# Altium integrated library FMP Miscellaneous Device.IntLib: 42 symbols
Pins are listed as number, name and electrical type; pins without a type are passive.

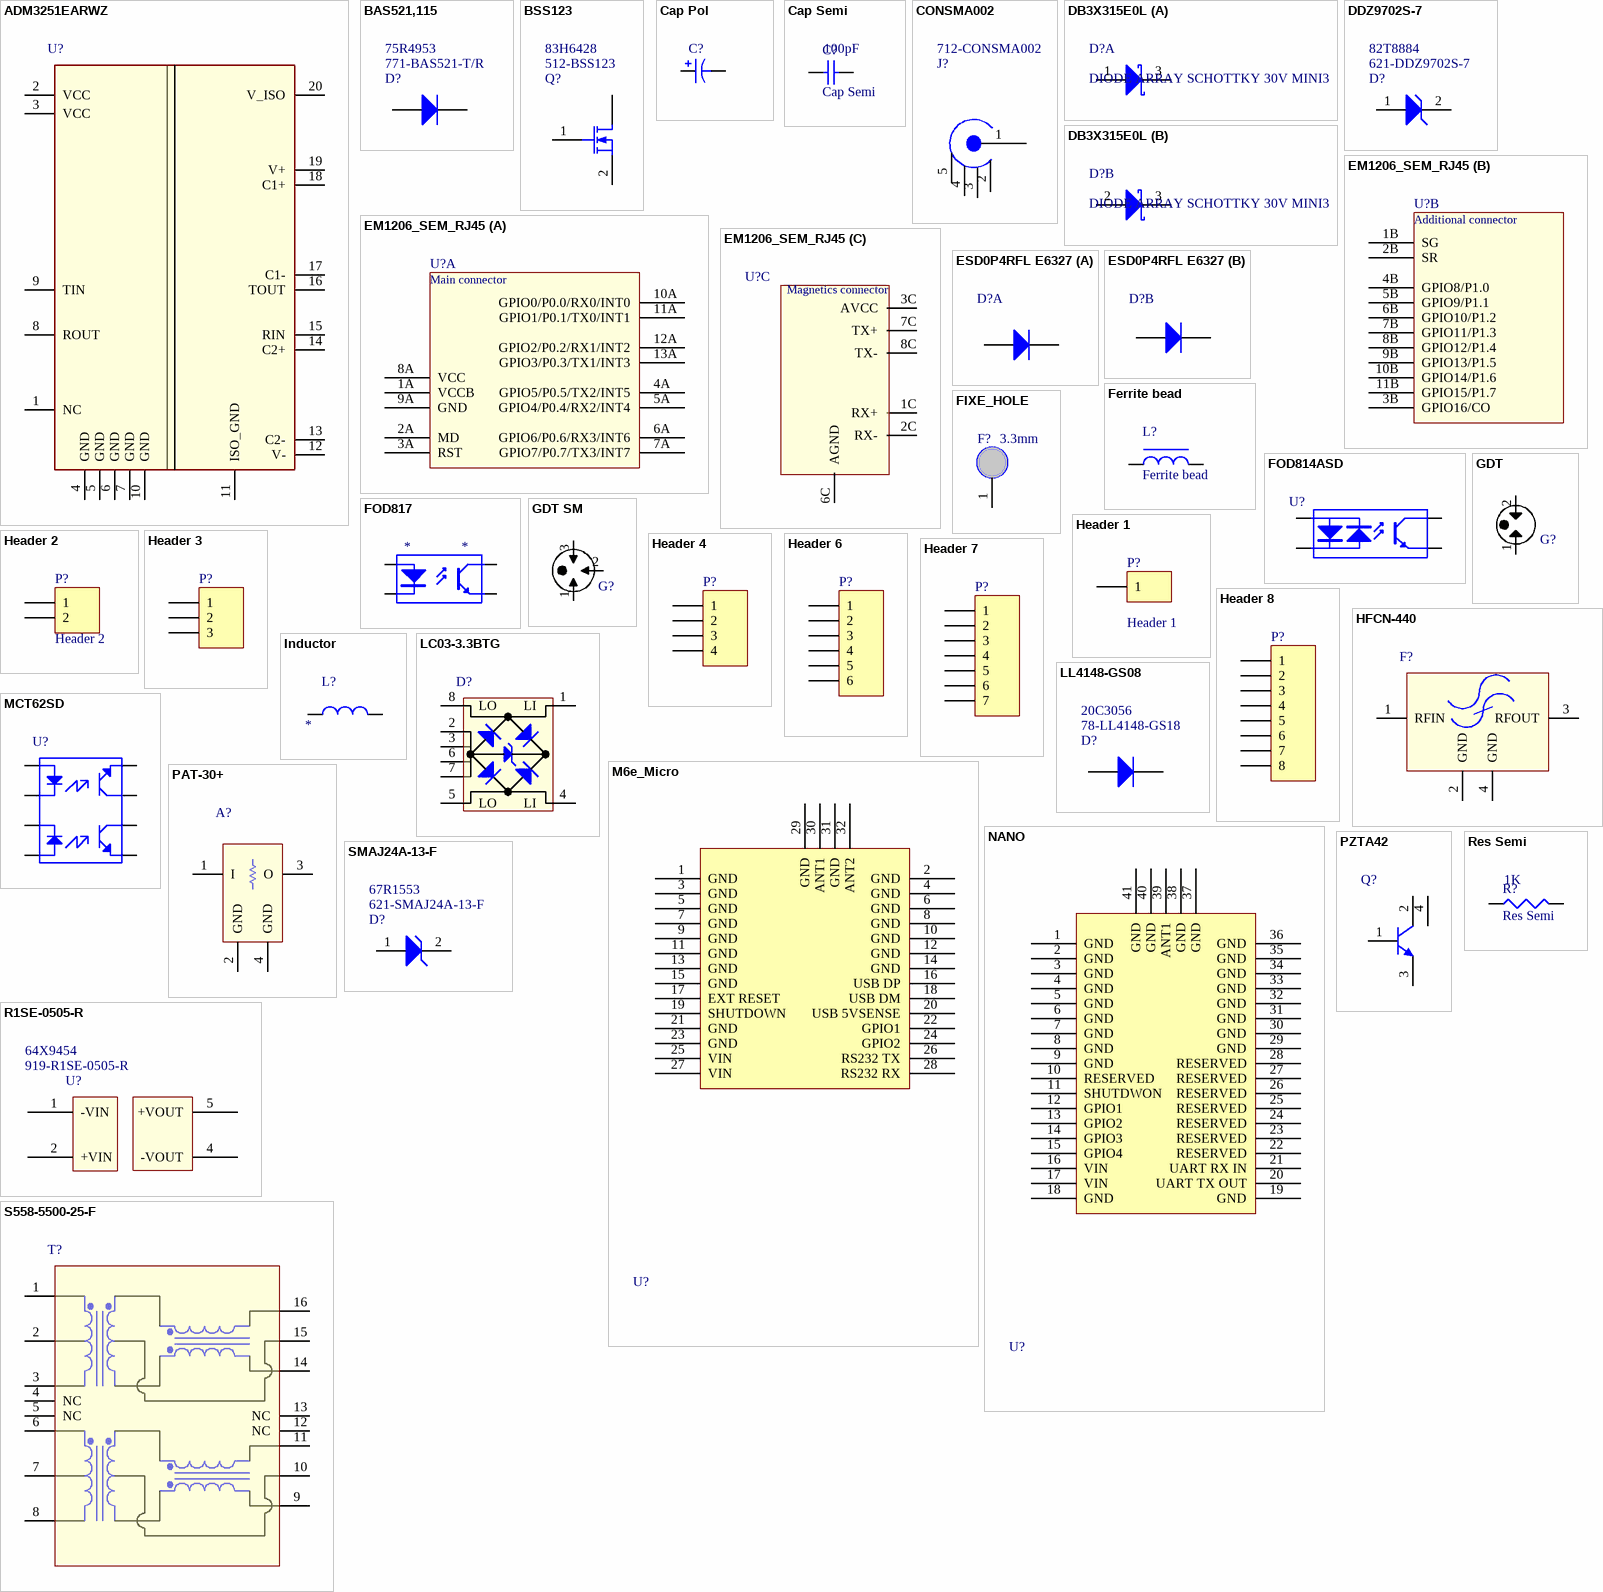
[diagram p0: symbols ADM3251EARWZ to SMAJ24A-13-F]

## ADM3251EARWZ
designator U?  (value not drawn)
DGTL ISO 2.5KV 2CH RS232 20SOIC; Manufacturer: Analog Devices Inc; Isolated Power: Yes; Number of Channels: 2; Inputs - Side 1/Side 2: 1/1; Channel Type: Unidirectional; Voltage - Isolation: 2500Vrms; Common Mode Transient Immunity (Min): 25kV/µs; Data Rate: 460Kbps; Rise / Fall Time (Typ): 2.3ns, 2.3ns; Voltage - Supply: 3.3V, 5V; Supplier 1: Digi-Key; ManufacturerPartNumber: ADM3251EARWZ; RoHS: RoHS Compliant; Category: Isolators; Stock 1: 1699; Pricing 1: 1=7.24, 10=6.519, 37=5.94, 111=5.36036, 259=4.92575, 518=4.49112, 1036=3.91162, 2516=3.76675, 5032=3.66 (USD); Packaging: Tube; Technology: Magnetic Coupling; Type: RS232; Propagation Delay tpLH / tpHL (Max): -; Pulse Width Distortion (Max): -; Operating Temperature: -40°C ~ 85°C; Package / Case: 20-SOIC (0.295", 7.50mm Width); Supplier Device Package: 20-SOIC; ComponentLink1URL: http://www.analog.com/static/imported-files/data_sheets/ADM3251E.pdf; ComponentLink1Description: http://www.analog.com/static/imported-files/data_sheets/ADM3251E.pdf; Supplier Part Number 1: ADM3251EARWZ-ND
footprint SOIC_20_W (SOIC 20 WIDE)
pins: 1 NC, 2 VCC, 3 VCC, 4 GND, 5 GND, 6 GND, 7 GND, 8 ROUT, 9 TIN, 10 GND, 11 ISO_GND, 12 V-, 13 C2-, 14 C2+, 15 RIN, 16 TOUT, 17 C1-, 18 C1+, 19 V+, 20 V_ISO

## BAS521,115
designator D?  Supplier Part Number 2: 771-BAS521-T/R  Supplier Part Number 3: 75R4953
DIODE GEN PURP 300V 250MA SOD523; Manufacturer: NXP Semiconductors; Manufacturer Part Number: BAS521,115; Diode Type: Standard; Current - Average Rectified (Io): 250mA (DC); Voltage - Forward (Vf) (Max) @ If: 1.1V @ 100mA; Speed: Fast Recovery =< 500ns, > 200mA (Io); Reverse Recovery Time (trr): 50ns; Current - Reverse Leakage @ Vr: 150nA @ 250V; Capacitance @ Vr, F: 5pF @ 0V, 1MHz; Configuration: Single; Forward Continuous Current: 0.25 A; Max Surge Current: 4.5 A; Recovery Time: 50 ns; Forward Voltage Drop: 1.1 V; Maximum Reverse Leakage Current: 0.15 uA; Forward Current If(AV): 100; Repetitive Reverse Voltage Vrrm Max: 300; Forward Voltage VF Max: 1.1; Reverse Recovery Time trr Max: 50; Forward Surge Current Ifsm Max: 4.5; No. of Pins: 2; Supplier 1: Digi-Key; RoHS: RoHS Compliant; Category: Discrete Semiconductor Products; Stock 1: 18985; Pricing 1: 1=0.32, 10=0.29, 25=0.2084, 100=0.1622, 250=0.10192, 500=0.08686, 1000=0.05918 (USD); Packaging: Cut Tape (CT); Voltage - DC Reverse (Vr) (Max): 300V; Mounting Type: Surface Mount; Package / Case: SC-79, SOD-523; Supplier Device Package: SOD-523; Operating Temperature - Junction: 150°C (Max); ComponentLink1URL: http://www.nxp.com/documents/data_sheet/BAS521.pdf; ComponentLink1Description: http://www.nxp.com/documents/data_sheet/BAS521.pdf; Supplier Part Number 1: 568-6009-1-ND; Supplier 2: Mouser; Stock 2: 63383; Pricing 2: 1=0.419, 10=0.281, 100=0.117, 1000=0.080, 3000=0.061, 9000=0.051, 24000=0.049, 45000=0.045, 99000=0.039 (AUD); Operating Temperature Range: + 150 C; Product: Switching Diodes; Brand: NXP Semiconductors; Mounting Style: SMD/SMT; Maximum Operating Temperature: + 150 C; Minimum Operating Temperature: - 65 C; Peak Reverse Voltage: 300 V; Product Category: Diodes & Rectifiers - Single; Standard Pack Qty: 3000; RoHS - Mouser: Y; Minimum Order Quantity: 1; Reeling: True; ComponentLink2URL: http://www.mouser.com/ds/2/302/BAS521-350192.pdf; ComponentLink2Description: http://www.mouser.com/ds/2/302/BAS521-350192.pdf; Supplier 3: Newark; Stock 3: 3582; Pricing 3: 1=0,339, 10=0,311, 25=0,224, 100=0,174, 250=0,109, 500=0,093, 1000=0,064, 2500=0,056 (USD); ComponentLink3URL: http://www.farnell.com/datasheets/955964.pdf; ComponentLink3Description: http://www.farnell.com/datasheets/955964.pdf; ComponentLink4URL: http://www.nxp.com/packings/SOD523_115.html; ComponentLink4Description: http://www.nxp.com/packings/SOD523_115.html; ComponentLink5URL: http://www.farnell.com/datasheets/1760746.pdf; ComponentLink5Description: http://www.farnell.com/datasheets/1760746.pdf
footprint SOD523 (SMT)
pins: 1 A, 2 K

## BSS123
designator Q?  Supplier Part Number 2: 512-BSS123  Supplier Part Number 3: 83H6428
MOSFET N-CH 100V 170MA SOT-23; Manufacturer: Fairchild Semiconductor; Manufacturer Part Number: BSS123; FET Type: MOSFET N-Channel, Metal Oxide; FET Feature: Logic Level Gate; Current - Continuous Drain (Id) @ 25°C: 170mA (Ta); Rds On (Max) @ Id, Vgs: 6 Ohm @ 170mA, 10V; Vgs(th) (Max) @ Id: 2V @ 1mA; Gate Charge (Qg) @ Vgs: 2.5nC @ 10V; Input Capacitance (Ciss) @ Vds: 73pF @ 25V; Power - Max: 360mW; Configuration: Single; Forward Transconductance - Min: 0.8 S; Transistor Polarity: N-Channel; Channel Mode: Enhancement; Fall Time: 9 ns; Pd - Power Dissipation: 360 mW; Rds On - Drain-Source Resistance: 6 Ohms; Typical Turn-Off Delay Time: 17 ns; Vgs - Gate-Source Breakdown Voltage: 20 V; Continuous Drain Current Id: 170; Drain Source Voltage Vds: 100; On Resistance Rds(on): 6; Rds(on) Test Voltage Vgs: 10; Threshold Voltage Vgs: 20; No. of Pins: 3; Supplier 1: Digi-Key; RoHS: RoHS Compliant; Category: Discrete Semiconductor Products; Stock 1: 265820; Pricing 1: 1=0.24, 10=0.216, 25=0.1556, 100=0.1211, 250=0.07612, 500=0.06484, 1000=0.04418 (USD); Packaging: Digi-Reel®; Drain to Source Voltage (Vdss): 100V; Mounting Type: Surface Mount; Package / Case: TO-236-3, SC-59, SOT-23-3; Supplier Device Package: SOT-23; ComponentLink1URL: http://www.fairchildsemi.com/datasheets/BS/BSS123.pdf; ComponentLink1Description: http://www.fairchildsemi.com/datasheets/BS/BSS123.pdf; Supplier Part Number 1: BSS123NDKR-ND; Supplier 2: Mouser; Stock 2: 94853; Pricing 2: 1=0.324, 10=0.211, 100=0.088, 1000=0.059, 3000=0.046, 9000=0.039, 24000=0.036, 45000=0.034, 99000=0.030 (AUD); Series: BSS123; Brand: Fairchild Semiconductor; Mounting Style: SMD/SMT; Id - Continuous Drain Current: 170 mA; Maximum Operating Temperature: + 150 C; Minimum Operating Temperature: - 55 C; Rise Time: 9 ns; Standard Pack Qty: 3000; Vds - Drain-Source Breakdown Voltage: 100 V; RoHS - Mouser: Y; Minimum Order Quantity: 1; Reeling: True; ComponentLink2URL: http://www.mouser.com/ds/2/149/BSS123-90724.pdf; ComponentLink2Description: http://www.mouser.com/ds/2/149/BSS123-90724.pdf; Supplier 3: Newark; Stock 3: 1017; Pricing 3: 1=0,292, 10=0,19, 100=0,079, 1000=0,054 (USD); ComponentLink3URL: http://www.onsemi.com/pub/Collateral/2SA1020-D.PDF; ComponentLink3Description: http://www.onsemi.com/pub/Collateral/2SA1020-D.PDF
footprint SOT-23_L (SOT23, 3-Leads, Body 2.9x1.3mm, Pitch 0.95mm, Lead Span 2.5mm, IPC High Density)
pins: 1 G, 2 S, 3 D

## Cap Pol
designator C?  (value not drawn)
Polarized Capacitor (Axial); Value: 100pF; Published: 8-Jun-2000; LatestRevisionDate: 17-Jul-2002; LatestRevisionNote: Re-released for DXP Platform.; PackageReference: POLAR0.8; Publisher: Altium Limited; PackageDescription: Polarized Capacitor; 2 Leads
simulation model CAP (Capacitor)
signal-integrity model Cap Pol
footprint CAPPR2.5-6.3X5 (Capacitor, Electrolytic, Radial; Body 6.3 x 5 mm (Dia.xH typ); Pin Spacing 2.5 mm (typ))
footprint CAPPR5-10X12.5 (Capacitor, Electrolytic, Radial; Body 10 x 12.5 mm (Dia.xH typ); Pin Spacing 5 mm (typ))
footprint Radial, Can 8MM- SMD (Radial, Can - SMD)
footprint Radial, Can 10mm - SMD (Radial, Can - SMD (D=10mm, H=10mm))
footprint Radial, Can 6.3MM- SMD (Radial, Can - SMD Diameter 6.3mm)
footprint CAPPR5-10X20 (Capacitor, Electrolytic, Radial; Body 10 x 5 mm (Dia.xH typ); Pin Spacing 5 mm (typ))
pins: 1, 2
1 alternate drawing of the same symbol

## Cap Semi
designator C?  value 100pF
Capacitor (Semiconductor SIM Model); Published: 8-Jun-2000; LatestRevisionDate: 29-May-2009; LatestRevisionNote: IPC-7351 Footprint Added.; PackageReference: C1206; Publisher: Altium Limited; PackageDescription: Chip Capacitor
simulation model CAP (Semiconductor Capacitor)
signal-integrity model Cap Semi
footprint Cap-0603(1608 Metric) (Chip Capacitor, Body 1.6x0.8mm, IPC High Density)
footprint CAP-1812(4532 METRIC) (Chip Capacitor, Body 4.5x3.2mm, IPC High Density)
pins: 1, 2

## CONSMA002
designator J?  Supplier Part Number 2: 712-CONSMA002
CONN SMA JACK R/A 50 OHM PCB; Manufacturer: Linx Technologies Inc; Manufacturer Part Number: CONSMA002; Connector Type: Jack, Female Socket; Contact Termination: Solder; Impedance: 50 Ohm; Body Material: Brass; Body Finish: Nickel; Center Contact Material: Beryllium Copper; Center Contact Plating: Gold; Dielectric Material: Polytetrafluoroethylene (PTFE); Brand: Linx Technologies; Supplier 1: Digi-Key; RoHS: RoHS Compliant; Category: Connectors, Interconnects; Stock 1: 4295; Pricing 1: 1=3.31, 25=3.03, 100=2.76, 500=2.7 (USD); Packaging: Bulk; Connector Style: SMA; Shield Termination: Solder; Mounting Type: Through Hole, Right Angle; Cable Group: -; Fastening Type: Threaded; Frequency - Max: -; Features: -; Housing Color: Silver; Ingress Protection: -; Voltage Rating: -; Operating Temperature: -65°C ~ 165°C; ComponentLink1URL: http://www.linxtechnologies.com/resources/diagrams/consma002.pdf; ComponentLink1Description: http://www.linxtechnologies.com/resources/diagrams/consma002.pdf; Supplier Part Number 1: CONSMA002-ND; Supplier 2: Mouser; Stock 2: 2893; Pricing 2: 1=4.47, 25=4.09, 100=3.73, 500=3.32, 2000=2.97 (AUD); Contact Plating: Gold; Gender: Jack; Orientation: Right Angle; Product: PCB Receptacles; Series: SMA; Termination Style: Solder; Contact Material: Beryllium Copper; RF Series: SMA; Product Category: SMA Connectors; Standard Pack Qty: 100; RoHS - Mouser: Y; Minimum Order Quantity: 1; Reeling: False; ComponentLink2URL: http://www.mouser.com/ds/2/238/consma002-471831.pdf; ComponentLink2Description: http://www.mouser.com/ds/2/238/consma002-471831.pdf
footprint SMA 90 (SMA PCB 90)
pins: 1 IN, 2 GND, 3 GND, 4 GND, 5 GND

## DB3X315E0L
designator D?, comment DIODE ARRAY SCHOTTKY 30V MINI3
Manufacturer: Panasonic Electronic Components; ManufacturerPartNumber: DB3X315E0L; Diode Configuration: 1 Pair Common Cathode; Current - Average Rectified (Io) (per Diode): 30mA (DC); Voltage - Forward (Vf) (Max) @ If: 1V @ 30mA; Speed: Small Signal =< 200mA (Io), Any Speed; Reverse Recovery Time (trr): 1ns; Current - Reverse Leakage @ Vr: 300nA @ 30V; Supplier 1: Digi-Key; RoHS: RoHS Compliant; Category: Discrete Semiconductor Products; Stock 1: 11816; Pricing 1: 1=0.35, 10=0.318, 25=0.2288, 100=0.1781, 250=0.11188, 500=0.09534, 1000=0.06496 (USD); Packaging: Cut Tape (CT); Diode Type: Schottky; Voltage - DC Reverse (Vr) (Max): 30V; Mounting Type: Surface Mount; Package / Case: TO-236-3, SC-59, SOT-23-3; Supplier Device Package: Mini3-G3-B; ComponentLink1URL: http://industrial.panasonic.com/www-cgi/jvcr13pz.cgi?E+SC+4+CDF7003+DB3X315E+8+WW; ComponentLink1Description: http://industrial.panasonic.com/www-cgi/jvcr13pz.cgi?E+SC+4+CDF7003+DB3X315E+8+WW; Supplier Part Number 1: DB3X315E0LCT-ND
footprint SOT-23_L (SOT23, 3-Leads, Body 2.9x1.3mm, Pitch 0.95mm, Lead Span 2.5mm, IPC High Density)
part A pins: 1 A, 3 K
part B pins: 2 A, 3 K

## DDZ9702S-7
designator D?  Supplier Part Number 2: 621-DDZ9702S-7  Supplier Part Number 3: 82T8884
DIODE ZENER 15V 200MW SOD323; Manufacturer: Diodes Incorporated; Manufacturer Part Number: DDZ9702S-7; Tolerance: ±5%; Current - Reverse Leakage @ Vr: 50nA @ 11.4V; Voltage - Forward (Vf) (Max) @ If: 900mV @ 10mA; Configuration: Single; Zener Current: 50 mA; Maximum Reverse Leakage Current: 50 nA; Voltage Tolerance: 5 %; Zener Voltage Vz Typ: 15; Power Dissipation Pd: 200; Diode Case Style: SOD-323; No. of Pins: 2; Supplier 1: Digi-Key; RoHS: RoHS Compliant; Category: Discrete Semiconductor Products; Stock 1: 4357; Pricing 1: 1=0.52, 10=0.371, 25=0.2884, 100=0.2184, 250=0.1544, 500=0.1236, 1000=0.0948 (USD); Packaging: Cut Tape (CT); Voltage - Zener (Nom) (Vz): 15V; Power - Max: 200mW; Impedance (Max) (Zzt): -; Operating Temperature: -65°C ~ 150°C; Mounting Type: Surface Mount; Package / Case: SC-76, SOD-323; Supplier Device Package: SOD-323; ComponentLink1URL: http://www.diodes.com/datasheets/ds30409.pdf; ComponentLink1Description: http://www.diodes.com/datasheets/ds30409.pdf; Supplier Part Number 1: DDZ9702SDICT-ND; Supplier 2: Mouser; Stock 2: 6155; Pricing 2: 1=0.689, 10=0.389, 100=0.166, 1000=0.128, 3000=0.097, 9000=0.086, 24000=0.081, 45000=0.072, 99000=0.068 (AUD); Series: DDZ9702; Brand: Diodes Incorporated; Mounting Style: SMD/SMT; Maximum Operating Temperature: + 150 C; Minimum Operating Temperature: - 65 C; Pd - Power Dissipation: 200 mW; Product Category: Diode - Zener Single; Standard Pack Qty: 3000; Vz - Zener Voltage: 15 V; RoHS - Mouser: Y; Minimum Order Quantity: 1; Reeling: True; ComponentLink2URL: http://www.mouser.com/ds/2/115/ds30409-79621.pdf; ComponentLink2Description: http://www.mouser.com/ds/2/115/ds30409-79621.pdf; Supplier 3: Newark; Stock 3: 2210; Pricing 3: 1=0,383, 10=0,26, 100=0,123, 250=0,088, 500=0,067, 1000=0,047 (USD); Operating Temperature Max: 150; MSL: MSL 1 - Unlimited; Operating Temperature Min: -65
footprint SOD-323 (SMT)
pins: 1 A, 2 K

## EM1206_SEM_RJ45
designator U?
BASIC-programmable embedded module; Manufacturer: Tibbo; Manufacturer Part Number: EM1206D; Supplier 1: Tibbo
footprint EM1206 (TH)
part A pins: 1A VCCB (power), 2A MD (power), 3A RST (power), 4A GPIO5/P0.5/TX2/INT5 (power), 5A GPIO4/P0.4/RX2/INT4 (power), 6A GPIO6/P0.6/RX3/INT6 (power), 7A GPIO7/P0.7/TX3/INT7 (power), 8A VCC (power), 9A GND (power), 10A GPIO0/P0.0/RX0/INT0 (power), 11A GPIO1/P0.1/TX0/INT1 (power), 12A GPIO2/P0.2/RX1/INT2 (power), 13A GPIO3/P0.3/TX1/INT3 (power)
part B pins: 1B SG (power), 2B SR (power), 3B GPIO16/CO (power), 4B GPIO8/P1.0 (power), 5B GPIO9/P1.1 (power), 6B GPIO10/P1.2 (power), 7B GPIO11/P1.3 (power), 8B GPIO12/P1.4 (power), 9B GPIO13/P1.5 (power), 10B GPIO14/P1.6 (power), 11B GPIO15/P1.7 (power)
part C pins: 1C RX+, 2C RX-, 3C AVCC, 6C AGND, 7C TX+, 8C TX-
part A text: Main connector
part B text: Additional connector
part C text: Magnetics connector

## ESD0P4RFL E6327
designator D?
TVS DIODE 50VWM 9VC TSLP4-7; Manufacturer: Infineon Technologies; Manufacturer Part Number: ESD0P4RFL E6327; Type: Zener; Unidirectional Channels: 2; Voltage - Reverse Standoff (Typ): 50V (Max); Voltage - Clamping (Max) @ Ipp: 9V; Current - Peak Pulse (10/1000µs): 5A (8/20µs); Power Line Protection: No; Capacitance @ Frequency: 0.4pF @ 1GHz; Capacitance: 0.4 pF; Clamping Voltage: 6 V; Operating Voltage: 50 V; Peak Surge Current: 5 A; Polarity: Unidirectional; Clamping Voltage Vc Max: 6; Diode Case Style: TSLP-4-7; No. of Pins: 4; Diode Type: ESD Protection; Peak Pulse Current Ippm: 5; Supplier 1: Digi-Key; RoHS: RoHS Compliant; Category: Circuit Protection; Stock 1: 34572; Pricing 1: 1=0.59, 10=0.418, 25=0.3452, 100=0.2785, 250=0.20052, 500=0.16154, 1000=0.12533, 2500=0.1114, 5000=0.10583 (USD); Packaging: Cut Tape (CT); Bidirectional Channels: -; Voltage - Breakdown (Min): -; Power - Peak Pulse: -; Applications: Ethernet, HDMI, RF Antenna; Operating Temperature: -55°C ~ 150°C (TJ); Mounting Type: Surface Mount; Package / Case: 4-XFDFN; Supplier Device Package: PG-TSLP-4 (1.2x0.8); ComponentLink1URL: http://www.infineon.com/dgdl/esd0p4rf.pdf?folderId=db3a30431441fb5d01149221c9230fb2&fileId=db3a304318f3fe29011914ad9b81031f; ComponentLink1Description: http://www.infineon.com/dgdl/esd0p4rf.pdf?folderId=db3a30431441fb5d01149221c9230fb2&fileId=db3a304318f3fe29011914ad9b81031f; Supplier Part Number 1: ESD0P4RFLE6327INCT-ND; Supplier 2: Mouser; Stock 2: 49573; Pricing 2: 1=0.783, 10=0.467, 100=0.219, 1000=0.169, 2500=0.128, 10000=0.116, 15000=0.109, 45000=0.097, 90000=0.095 (AUD); Series: ESD0P4; Termination Style: SMD/SMT; Brand: Infineon Technologies; Mounting Style: SMD/SMT; Maximum Operating Temperature: + 150 C; Minimum Operating Temperature: - 55 C; Product Category: TVS Diodes; Standard Pack Qty: 15000; RoHS - Mouser: Y; Minimum Order Quantity: 1; Reeling: True; ComponentLink2URL: http://www.infineon.com/dgdl/esd0p4rfl.pdf?folderId=db3a30431441fb5d01149221c9230fb2&fileId=db3a304318f3fe29011914ad9b81031f; ComponentLink2Description: http://www.infineon.com/dgdl/esd0p4rfl.pdf?folderId=db3a30431441fb5d01149221c9230fb2&fileId=db3a304318f3fe29011914ad9b81031f; Supplier 3: Newark; Stock 3: 45; Pricing 3: 1=0,371, 10=0,297, 25=0,26, 100=0,223, 250=0,193, 500=0,166, 1000=0,128, 2500=0,122 (USD); Power Dissipation Pd: -; MSL: MSL 1 - Unlimited; Supplier Part Number 2: 726-ESD0P4RFLE6327; Supplier Part Number 3: 68R0500
footprint TSLP-4-7
part A pins: 1 K, 4 A
part B pins: 2 A, 3 K

## Ferrite bead
designator L?
Magnetic-Core Inductor; Value: 10mH; Published: 24-Mar-1999; LatestRevisionDate: 17-Jul-2002; LatestRevisionNote: Re-released for DXP Platform.; PackageReference: AXIAL-0.9; Publisher: Altium Limited; PackageDescription: Axial Device, Thru-Hole; 2 Leads; 0.9 in Pin Spacing
simulation model INDUCTOR (Inductor)
signal-integrity model Inductor Iron
footprint Res-0603(1608 Metric) (Chip Resistor, Body 1.6x0.8mm, IPC High Density)
pins: 1, 2

## FIXE_HOLE
designator F?, comment 3.3mm  (mechanical)
Screw hole
footprint FIXE_HOLE
pins: 1 GND

## FOD814ASD
designator U?  (value not drawn)
OPTOISOLATOR 5KV TRANSISTOR 4SMD; Manufacturer: Fairchild Semiconductor; Number of Channels: 1; Voltage - Isolation: 5000Vrms; Current Transfer Ratio (Min): 50% @ 1mA; Current Transfer Ratio (Max): 150% @ 1mA; Rise / Fall Time (Typ): 4µs, 3µs; Input Type: AC, DC; Voltage - Output (Max): 70V; Current - Output / Channel: 50mA; Voltage - Forward (Vf) (Typ): 1.2V; Vce Saturation (Max): 200mV; Supplier 1: Digi-Key; ManufacturerPartNumber: FOD814ASD; RoHS: RoHS Compliant; Category: Isolators; Stock 1: 11010; Pricing 1: 1=0.71, 10=0.542, 25=0.4536, 100=0.3906, 250=0.34652, 500=0.2961 (USD); Packaging: Cut Tape (CT); Turn On / Turn Off Time (Typ): -; Output Type: Transistor; Current - DC Forward (If) (Max): 50mA; Operating Temperature: -55°C ~ 105°C; Mounting Type: Surface Mount; Package / Case: 4-SMD, Gull Wing; Supplier Device Package: *; ComponentLink1URL: http://www.fairchildsemi.com/datasheets/FO/FOD814A.pdf; ComponentLink1Description: http://www.fairchildsemi.com/datasheets/FO/FOD814A.pdf; Supplier Part Number 1: FOD814ASDCT-ND
footprint 4-SMT
pins: 1 AK "Anode", 2 KA "Cathode", 3 E "Emitter", 4 C "Collector"

## FOD817
designator *
footprint 4-SMT
pins: 1 AK "Anode", 2 KA "Cathode", 3 E "Emitter", 4 C "Collector"

## GDT
designator G?
GAS DISCHARGE TUBE GDT
footprint 2-SMD Cylinder Square End
pins: 1 GND, 2 Signal

## GDT SM
designator G?
GAS DISCHARGE TUBE GDT
footprint 3-SMD Cylinder Square End
pins: 1 Signal, 2 GND, 3 Signal

## Header 1
designator P?
Header, 1-Pin; LatestRevisionDate: 17-Jul-2002; LatestRevisionNote: Re-released for DXP Platform.; Publisher: Altium Limited
signal-integrity model Connector
footprint BORNE_SMD_1VIA
pins: 1

## Header 2
designator P?
Header, 2-Pin; LatestRevisionDate: 17-Jul-2002; LatestRevisionNote: Re-released for DXP Platform.; Publisher: Altium Limited
signal-integrity model Connector
footprint BORNE_SMD_2VIAS
pins: 1, 2

## Header 3
designator P?
Header, 3-Pin; LatestRevisionDate: 17-Jul-2002; LatestRevisionNote: Re-released for DXP Platform.; Publisher: Altium Limited
signal-integrity model Connector
footprint BORNE_SMD_3VIAS
pins: 1, 2, 3

## Header 4
designator P?
Header, 4-Pin; LatestRevisionDate: 17-Jul-2002; LatestRevisionNote: Re-released for DXP Platform.; Publisher: Altium Limited
signal-integrity model Connector
footprint BORNE_SMD_4VIAS
pins: 1, 2, 3, 4

## Header 6
designator P?
Header, 6-Pin; LatestRevisionDate: 17-Jul-2002; LatestRevisionNote: Re-released for DXP Platform.; Publisher: Altium Limited
signal-integrity model Connector
footprint BORNE_SMD_6VIAS
pins: 1, 2, 3, 4, 5, 6

## Header 7
designator P?
Header, 7-Pin; LatestRevisionDate: 17-Jul-2002; LatestRevisionNote: Re-released for DXP Platform.; Publisher: Altium Limited
signal-integrity model Connector
footprint BORNE_SMD_7VIAS
pins: 1, 2, 3, 4, 5, 6, 7

## Header 8
designator P?
Header, 8-Pin; LatestRevisionDate: 17-Jul-2002; LatestRevisionNote: Re-released for DXP Platform.; Publisher: Altium Limited
signal-integrity model Connector
footprint BORNE_SMD_8VIAS
pins: 1, 2, 3, 4, 5, 6, 7, 8

## HFCN-440
designator F?
High Pass Filter; Manufacturer Part Number: HFCN-440+; Manufacturer: Minicircuits; Supplier 1: Minicircuits; Supplier Part Number 1: HFCN-440+; Supplier Device Package: FV1206; Category: Filter
footprint FV1206 (HPF SMT)
pins: 1 RFIN, 2 GND, 3 RFOUT, 4 GND

## Inductor
designator L?
Magnetic-Core Inductor; Value: *
simulation model INDUCTOR (Inductor)
signal-integrity model Inductor Iron
footprint SLF-SMT (SLF Series inductor)
footprint NRG-SMT (Nonstandard SMT)
pins: 1, 2

## LC03-3.3BTG
designator D?  (value not drawn)
TVS DIODE 3.3VWM 17VC 8SOIC; Manufacturer: Littelfuse Inc; Type: Steering (Rail to Rail); Bidirectional Channels: 2; Voltage - Reverse Standoff (Typ): 3.3V (Max); Voltage - Breakdown (Min): 3.3V; Voltage - Clamping (Max) @ Ipp: 17V; Current - Peak Pulse (10/1000µs): 150A (8/20µs); Power - Peak Pulse: 3300W (3.3kW); Power Line Protection: Yes; Capacitance @ Frequency: 9pF @ 1MHz; Breakdown Voltage: 3.3 V; Clamping Voltage: 17 V; Brand: Littelfuse; Channels: 4 Channels; Peak Surge Current: 150 A; Peak Pulse Power Dissipation: 3300 W; Power Dissipation Pd: 3.3; Clamping Voltage Vc Max: 20; Diode Case Style: SOIC; No. of Pins: 8; Diode Type: ESD Protection; Supplier 1: Digi-Key; ManufacturerPartNumber: LC03-3.3BTG; RoHS: RoHS Compliant; Category: Circuit Protection; Stock 1: 6361; Pricing 1: 1=2.14, 10=1.93, 25=1.7288, 100=1.5544, 250=1.3802, 500=1.206, 1000=0.9983 (USD); Packaging: Cut Tape (CT); Unidirectional Channels: -; Applications: Ethernet; Operating Temperature: -40°C ~ 125°C (TJ); Mounting Type: Surface Mount; Package / Case: 8-SOIC (0.154", 3.90mm Width); Supplier Device Package: 8-SOIC; ComponentLink1URL: http://www.littelfuse.com/~/media/electronics/datasheets/tvs_diode_arrays/littelfuse_tvs_diode_array_lc03_3_3_datasheet.pdf.pdf; ComponentLink1Description: http://www.littelfuse.com/~/media/electronics/datasheets/tvs_diode_arrays/littelfuse_tvs_diode_array_lc03_3_3_datasheet.pdf.pdf; Supplier Part Number 1: F4205CT-ND; Supplier 2: Mouser; Stock 2: 2524; Pricing 2: 1=2.88, 10=2.32, 100=2.09, 500=1.86, 1000=1.62, 2500=1.22, 5000=1.18, 10000=1.10 (AUD); Dimensions: 4 mm W x 5 mm L x 1.75 mm H; Operating Voltage: 3.3 V; Series: LC03-3.3; Termination Style: SMD/SMT; Mounting Style: SMD/SMT; Maximum Operating Temperature: + 125 C; Minimum Operating Temperature: - 55 C; Product Category: TVS SCR/Diode Arrays; Standard Pack Qty: 2500; RoHS - Mouser: Y; Minimum Order Quantity: 1; Reeling: True; ComponentLink2URL: http://www.mouser.com/ds/2/240/littelfuse_tvs_diode_array_lc03_3_3_datasheet.pdf-466976.pdf; ComponentLink2Description: http://www.mouser.com/ds/2/240/littelfuse_tvs_diode_array_lc03_3_3_datasheet.pdf-466976.pdf; Supplier 3: Farnell; Stock 3: 529; Pricing 3: 1=2,25, 10=2,04, 25=1,93, 50=1,69, 100=1,41, 250=1,32 (GBP); MSL: MSL 1 - Unlimited; ComponentLink3URL: http://www.littelfuse.com/~/media/Products/TVS%20Diode%20Arrays/Low%20Capacitance%20ESD%20Protection/Technical%20Resources/Data%20Sheets/Littelfuse-TVS-Diode-Array-LC03.pdf; ComponentLink3Description: http://www.littelfuse.com/~/media/Products/TVS%20Diode%20Arrays/Low%20Capacitance%20ESD%20Protection/Technical%20Resources/Data%20Sheets/Littelfuse-TVS-Diode-Array-LC03.pdf; Supplier Part Number 2: 576-LC03-3.3BTG; Supplier Part Number 3: 2280363
footprint SO-8 (SO-8 SOIC)
pins: 1 LI, 2, 3, 4 LI, 5 LO, 6, 7, 8 LO

## LL4148-GS08
designator D?  Supplier Part Number 2: 78-LL4148-GS18  Supplier Part Number 3: 20C3056
DIODE GEN PURP 75V 300MA SOD80; Manufacturer: Vishay Semiconductor Diodes Division; Manufacturer Part Number: LL4148-GS08; Diode Type: Standard; Current - Average Rectified (Io): 300mA (DC); Voltage - Forward (Vf) (Max) @ If: 1V @ 50mA; Speed: Fast Recovery =< 500ns, > 200mA (Io); Reverse Recovery Time (trr): 4ns; Current - Reverse Leakage @ Vr: 5µA @ 75V; Capacitance @ Vr, F: 4pF @ 0V, 1MHz; Configuration: Single; Brand: Vishay Semiconductors; Forward Continuous Current: 0.3 A; Max Surge Current: 2 A; Recovery Time: 8 ns; Forward Voltage Drop: 1 V; Maximum Power Dissipation: 0.5 W; Maximum Reverse Leakage Current: 50 uA; Peak Reverse Voltage: 100 V; Forward Current If(AV): 150; Repetitive Reverse Voltage Vrrm Max: 100; Forward Voltage VF Max: 1; Reverse Recovery Time trr Max: 8; Forward Surge Current Ifsm Max: 2; Diode Case Style: MiniMELF; Supplier 1: Digi-Key; RoHS: RoHS Compliant; Category: Discrete Semiconductor Products; Stock 1: 34350; Pricing 1: 1=0.15, 10=0.135, 25=0.1224, 100=0.0881, 250=0.05188, 500=0.04304, 1000=0.02936, 2500=0.02498 (USD); Packaging: Cut Tape (CT); Voltage - DC Reverse (Vr) (Max): 75V; Mounting Type: Surface Mount; Package / Case: SOD-80; Supplier Device Package: SOD-80 MiniMELF; Operating Temperature - Junction: -65°C ~ 175°C; ComponentLink1URL: http://www.vishay.com/docs/85557/ll4148.pdf; ComponentLink1Description: http://www.vishay.com/docs/85557/ll4148.pdf; Supplier Part Number 1: LL4148-GS08CT-ND; Supplier 2: Mouser; Stock 2: 2642; Pricing 2: 1=0.135, 10=0.038, 100=0.034, 250=0.024, 500=0.016, 1000=0.012, 2000=0.009, 10000=0.009 (AUD); Operating Temperature Range: + 175 C; Product: Switching Diodes; Mounting Style: SMD/SMT; Maximum Operating Temperature: + 175 C; Minimum Operating Temperature: - 65 C; Product Category: Switching Diodes; Standard Pack Qty: 10000; RoHS - Mouser: E; Minimum Order Quantity: 1; Reeling: True; ComponentLink2URL: http://www.mouser.com/ds/2/427/ll4148-105055.pdf; ComponentLink2Description: http://www.mouser.com/ds/2/427/ll4148-105055.pdf; Supplier 3: Newark; Stock 3: 10709; Pricing 3: 1=0,053, 10=0,025, 100=0,023, 250=0,021, 500=0,02, 1000=0,019, 3000=0,017, 25000=0,013 (USD); ComponentLink3URL: http://www.farnell.com/datasheets/1809304.pdf; ComponentLink3Description: http://www.farnell.com/datasheets/1809304.pdf
footprint SOD-80 (MiniMELF)
pins: 1 A, 2 K

## M6e_Micro
designator U?
RFID 2 port Reader; Manufacturer: ThingMagic; Manufacturer Part Number: M6eMicro; Package/Case: Custom
footprint M6eMicro
pins: 1 GND, 2 GND, 3 GND, 4 GND, 5 GND, 6 GND, 7 GND, 8 GND, 9 GND, 10 GND, 11 GND, 12 GND, 13 GND, 14 GND, 15 GND, 16 USB DP, 17 EXT RESET, 18 USB DM, 19 SHUTDOWN, 20 USB 5VSENSE, 21 GND, 22 GPIO1, 23 GND, 24 GPIO2, 25 VIN, 26 RS232 TX, 27 VIN, 28 RS232 RX, 29 GND, 30 ANT1, 31 GND, 32 ANT2

## MCT62SD
designator U?  (value not drawn)
OPTOISO 5KV 2CH TRANSISTOR 8SMD; Manufacturer: Fairchild Semiconductor; Number of Channels: 2; Voltage - Isolation: 5000Vrms; Current Transfer Ratio (Min): 100% @ 5mA; Turn On / Turn Off Time (Typ): 2.4µs, 2.4µs; Input Type: DC; Voltage - Output (Max): 30V; Current - Output / Channel: 30mA; Voltage - Forward (Vf) (Typ): 1.2V; Current - DC Forward (If) (Max): 60mA; Vce Saturation (Max): 400mV; Supplier 1: Digi-Key; ManufacturerPartNumber: MCT62SD; RoHS: RoHS Compliant; Category: Isolators; Stock 1: 7875; Pricing 1: 1=1.11, 10=0.857, 25=0.7124, 100=0.6122, 250=0.53424, 500=0.46746 (USD); Packaging: Cut Tape (CT); Current Transfer Ratio (Max): -; Rise / Fall Time (Typ): -; Output Type: Transistor; Operating Temperature: -55°C ~ 100°C; Mounting Type: Surface Mount; Package / Case: 8-SMD, Gull Wing; Supplier Device Package: 8-SMD; ComponentLink1URL: http://www.fairchildsemi.com/datasheets/MC/MCT6.pdf; ComponentLink1Description: http://www.fairchildsemi.com/datasheets/MC/MCT6.pdf; Supplier Part Number 1: MCT62SDCT-ND
footprint 8-SMD (SMD 8 PINS)
pins: 1 ANODE "Anode", 2 CATHODE "Cathode", 3 CATHODE "Anode", 4 ANODE "Cathode", 5 EMITTER "Emitter", 6 COLLECTOR "Collector", 7 COLLECTOR "Emitter", 8 EMITTER "Collector"

## NANO
designator U?
RFID NANO 1 port Reader; Manufacturer: ThingMagic; Manufacturer Part Number: NANO; Package/Case: Custom
footprint NANO (NANO MODULE)
pins: 1 GND, 2 GND, 3 GND, 4 GND, 5 GND, 6 GND, 7 GND, 8 GND, 9 GND, 10 RESERVED, 11 SHUTDWON, 12 GPIO1, 13 GPIO2, 14 GPIO3, 15 GPIO4, 16 VIN, 17 VIN, 18 GND, 19 GND, 20 UART TX OUT, 21 UART RX IN, 22 RESERVED, 23 RESERVED, 24 RESERVED, 25 RESERVED, 26 RESERVED, 27 RESERVED, 28 RESERVED, 29 GND, 30 GND, 31 GND, 32 GND, 33 GND, 34 GND, 35 GND, 36 GND, 37 GND, 38 GND, 39 ANT1, 40 GND, 41 GND

## PAT-30+
designator A?
Miniature ceramic fixed attenuator; Manufacturer: Minicircuits; Manufacturer Part Number: PAT-30+; Category: Attenuator; Supplier 1: Minicircuits
footprint AF320 (Attenuator)
pins: 1 I, 2 GND, 3 O, 4 GND

## PZTA42
designator Q?
TRANS NPN 300V 0.5A SOT-223; Manufacturer: Fairchild Semiconductor; Manufacturer Part Number: PZTA42; Current - Collector (Ic) (Max): 500mA; Vce Saturation (Max) @ Ib, Ic: 500mV @ 2mA, 20mA; DC Current Gain (hFE) (Min) @ Ic, Vce: 40 @ 30mA, 10V; Power - Max: 1W; Frequency - Transition: 50MHz; Configuration: Single; Emitter- Base Voltage VEBO: 6 V; Collector-Emitter Saturation Voltage: 0.5 V; DC Collector/Base Gain hfe Min: 40; Gain Bandwidth Product fT: 50 MHz; Maximum Power Dissipation: 1 W; Collector Emitter Voltage V(br)ceo: 300; Transition Frequency ft: 50; Power Dissipation Pd: 1.5; No. of Pins: 4; Supplier 1: Digi-Key; RoHS: RoHS Compliant; Category: Discrete Semiconductor Products; Stock 1: 5161; Pricing 1: 1=0.44, 10=0.345, 25=0.2916, 100=0.2375, 250=0.19676, 500=0.16252, 1000=0.12173 (USD); Packaging: Digi-Reel®; Transistor Type: NPN; Voltage - Collector Emitter Breakdown (Max): 300V; Current - Collector Cutoff (Max): -; Mounting Type: Surface Mount; Package / Case: TO-261-4, TO-261AA; Supplier Device Package: SOT-223-3; ComponentLink1URL: http://www.fairchildsemi.com/datasheets/MM/MMBTA42.pdf; ComponentLink1Description: http://www.fairchildsemi.com/datasheets/MM/MMBTA42.pdf; Supplier Part Number 1: PZTA42DKR-ND; Supplier 2: Mouser; Stock 2: 21010; Pricing 2: 1=0.581, 10=0.393, 100=0.219, 1000=0.163, 4000=0.138, 24000=0.117, 48000=0.113 (AUD); Collector- Base Voltage VCBO: 300 V; Collector- Emitter Voltage VCEO Max: 300 V; Series: PZTA42; Brand: Fairchild Semiconductor; Mounting Style: SMD/SMT; Transistor Polarity: NPN; Maximum DC Collector Current: 0.5 A; Maximum Operating Temperature: + 150 C; Minimum Operating Temperature: - 55 C; Standard Pack Qty: 4000; RoHS - Mouser: E; Minimum Order Quantity: 1; Reeling: True; ComponentLink2URL: http://www.mouser.com/ds/2/149/PZTA42-196796.pdf; ComponentLink2Description: http://www.mouser.com/ds/2/149/PZTA42-196796.pdf; Supplier 3: Newark; Stock 3: 11149; Pricing 3: 1=0,537, 10=0,31, 100=0,147, 1000=0,113 (USD); DC Collector Current: 50; DC Current Gain hFE: 50; ComponentLink3URL: http://www.onsemi.com/pub/Collateral/PZTA42T1-D.PDF; ComponentLink3Description: http://www.onsemi.com/pub/Collateral/PZTA42T1-D.PDF; Supplier Part Number 2: 512-PZTA42; Supplier Part Number 3: 45J2213
footprint SOT-223
pins: 1 B, 2 C, 3 E, 4 C

## R1SE-0505-R
designator U?  Supplier Part Number 2: 919-R1SE-0505-R  Supplier Part Number 3: 64X9454
DC/DC CONVERTER 1W 5VIN 5VOUT; Manufacturer: Recom Power; Manufacturer Part Number: R1SE-0505-R; Number of Outputs: 1; Voltage - Input (Min): 4.5V; Voltage - Input (Max): 5.5V; Voltage - Output 1: 5V; Current - Output (Max): 200mA; Voltage - Isolation: 1kV (1000V); Efficiency: 75%; Input Voltage Range: 4.5 V to 5.5 V; Input Voltage-nominal: 5 V; Output Current-Channel 1: 200 mA; DC / DC Converter Type: Isolated POL; DC / DC Converter Output Type: Fixed; DC / DC Converter Mounting: SMD; Input Voltage DC Min: 4.5; Input Voltage DC Max: 5.5; Output Current Max: 200; Supplier 1: Digi-Key; RoHS: RoHS Compliant; Category: Power Supplies - Board Mount; Stock 1: 6875; Pricing 1: 1=3.2, 5=3.16, 10=3.115, 25=3.026, 50=2.937, 100=2.848, 250=2.759 (USD); Packaging: Cut Tape (CT); Type: Isolated Module; Voltage - Output 2: -; Voltage - Output 3: -; Power (Watts) - Manufacture Series: 1W; Features: SCP; Mounting Type: Surface Mount; Package / Case: 8-SMD Module (5 Leads); Size / Dimension: 0.50" L x 0.42" W x 0.26" H (12.8mm x 10.7mm x 6.7mm); Operating Temperature: -40°C ~ 85°C; Power (Watts) - Max: 1W; ComponentLink1URL: http://www.recom-power.com/pdf/Econoline/R1SE.pdf; ComponentLink1Description: http://www.recom-power.com/pdf/Econoline/R1SE.pdf; Supplier Part Number 1: 945-1659-1-ND; Supplier 2: Mouser; Stock 2: 2918; Pricing 2: 1=4.14, 10=4.06, 25=3.81, 50=3.78, 100=3.71, 250=3.60, 500=3.36, 1000=3.24, 2500=3.12 (AUD); Dimensions: 0.5 in  x 0.44 in  x 0.26 in; Height: 0.26 in; Length: 0.5 in; Operating Temperature Range: - 40 C to + 85 C; Output Power: 1 W; Product: Isolated; Series: R1SE; Width: 0.44 in; Brand: RECOM Power; Mounting Style: SMD/SMT; Output Voltage-Channel 1: 5 V; Standard Pack Qty: 500; Tradename: Econoline; RoHS - Mouser: Y; Minimum Order Quantity: 1; Reeling: True; ComponentLink2URL: http://www.mouser.com/ds/2/468/R1SE-2820.pdf; ComponentLink2Description: http://www.mouser.com/ds/2/468/R1SE-2820.pdf; Supplier 3: Newark; Stock 3: 996; Pricing 3: 1=3,44, 5=3,23, 10=3,12, 25=3,01, 50=2,91, 100=2,75, 250=2,64 (USD); Output Power Max: 1; ComponentLink3URL: http://www.farnell.com/datasheets/1833215.pdf; ComponentLink3Description: http://www.farnell.com/datasheets/1833215.pdf
footprint R1SE-SMT (DC-DC SMT)
pins: 1 -VIN (power), 2 +VIN (power), 4 -VOUT (power), 5 +VOUT (power), 8 NC hidden

## Res Semi
designator R?  value 1K
Resistor; Published: 8-Jun-2000; LatestRevisionDate: 29-May-2009; LatestRevisionNote: IPC-7351 Footprint Added.; PackageReference: J1-0603; Publisher: Altium Limited; PackageDescription: Chip Resistor
simulation model RESISTOR (Resistor)
signal-integrity model Res
footprint Res-0603(1608 Metric) (Chip Resistor, Body 1.6x0.8mm, IPC High Density)
footprint RES-1206(3216 Metric) (Chip Resistor, Body 3.2x1.6mm, IPC High Density)
pins: 1, 2

## S558-5500-25-F
designator T?
MODULE XFRMR LAN 10/100 POE SMD; Manufacturer: Bel Fuse Inc; Manufacturer Part Number: S558-5500-25-F; Inductance: 350µH; Turns Ratio - Primary:Secondary: 1 : 1 Transmitter, 1 : 1 Receiver; Supplier 1: Digi-Key; RoHS: RoHS Compliant; Category: Transformers; Stock 1: 820; Pricing 1: 1=2.48, 25=1.6088, 100=1.5263, 250=1.485 (USD); Transformer Type: -; E.T.: -; Mounting Type: Surface Mount; Size / Dimension: 12.32mm L x 7.24mm W; Height - Seated (Max): 5.71mm; ComponentLink1URL: http://belfuse.com/pdfs/S558-5500-25-F.pdf; ComponentLink1Description: http://belfuse.com/pdfs/S558-5500-25-F.pdf; Supplier Part Number 1: 507-1724-1-ND
footprint QBS001 (SMT)
pins: 1 TD+, 2 TCT, 3 TD-, 4 NC, 5 NC, 6 RD+, 7 RCT, 8 RD-, 9 RX-, 10 RXCT, 11 RX+, 12 NC, 13 NC, 14 TX-, 15 TXCT, 16 TX+

## SMAJ24A-13-F
designator D?  Supplier Part Number 2: 621-SMAJ24A-13-F  Supplier Part Number 3: 67R1553
TVS DIODE 24VWM 38.9VC SMA; Manufacturer: Diodes Incorporated; Manufacturer Part Number: SMAJ24A-13-F; Type: Zener; Unidirectional Channels: 1; Voltage - Reverse Standoff (Typ): 24V; Voltage - Breakdown (Min): 26.7V; Voltage - Clamping (Max) @ Ipp: 38.9V; Current - Peak Pulse (10/1000µs): 10.3A; Power - Peak Pulse: 400W; Power Line Protection: No; Breakdown Voltage: 26.7 V; Clamping Voltage: 38.9 V; Operating Voltage: 24 V; Peak Surge Current: 40 A; Peak Pulse Power Dissipation: 400 W; Polarity: Unidirectional; Reverse Stand-Off Voltage Vrwm: 24; Breakdown Voltage Min: 26.7; Breakdown Voltage Max: 29.5; Clamping Voltage Vc Max: 38.9; Peak Pulse Current Ippm: 35; Diode Case Style: DO-214; No. of Pins: 2; Supplier 1: Digi-Key; RoHS: RoHS Compliant; Category: Circuit Protection; Stock 1: 10699; Pricing 1: 1=0.5, 10=0.394, 25=0.3324, 100=0.2708, 250=0.22424, 500=0.18526, 1000=0.13875, 2500=0.1275 (USD); Packaging: Cut Tape (CT); Bidirectional Channels: -; Applications: General Purpose; Capacitance @ Frequency: -; Operating Temperature: -55°C ~ 150°C (TJ); Mounting Type: Surface Mount; Package / Case: DO-214AC, SMA; Supplier Device Package: SMA; ComponentLink1URL: http://www.diodes.com/datasheets/ds19005.pdf; ComponentLink1Description: http://www.diodes.com/datasheets/ds19005.pdf; Supplier Part Number 1: SMAJ24A-FDICT-ND; Supplier 2: Mouser; Stock 2: 6176; Pricing 2: 1=0.675, 10=0.448, 100=0.250, 1000=0.188, 5000=0.157, 10000=0.147, 25000=0.135, 50000=0.130, 100000=0.124 (AUD); Dimensions: 2.92(Max) mm W x 4.6 mm L; Series: SMAJ; Termination Style: SMD/SMT; Brand: Diodes Incorporated; Mounting Style: SMD/SMT; Maximum Operating Temperature: + 150 C; Minimum Operating Temperature: - 55 C; Product Category: TVS - Zener Single; Standard Pack Qty: 5000; RoHS - Mouser: Y; Minimum Order Quantity: 1; Reeling: True; ComponentLink2URL: http://www.mouser.com/ds/2/115/ds19005-73607.pdf; ComponentLink2Description: http://www.mouser.com/ds/2/115/ds19005-73607.pdf; Supplier 3: Newark; Stock 3: 2938; Pricing 3: 1=0,52, 10=0,367, 25=0,3, 100=0,24, 250=0,174, 500=0,142, 1000=0,11, 2500=0,093 (USD); TVS Polarity: Unidirectional; ComponentLink3URL: http://www.farnell.com/datasheets/1695388.pdf; ComponentLink3Description: http://www.farnell.com/datasheets/1695388.pdf; ComponentLink4URL: http://www.bourns.com/data/global/pdfs/SMAJ.pdf#search=%22SMAJ100A%22; ComponentLink4Description: http://www.bourns.com/data/global/pdfs/SMAJ.pdf#search=%22SMAJ100A%22
footprint DO-214AC (SMA)
pins: 1 A, 2 K

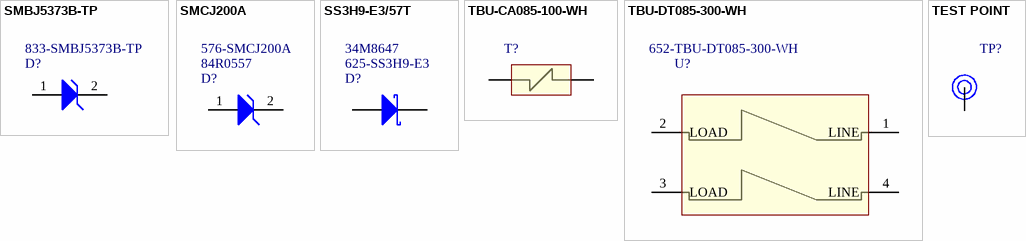
[diagram p1: symbols SMBJ5373B-TP to TEST POINT]

## SMBJ5373B-TP
designator D?  Supplier Part Number 2: 833-SMBJ5373B-TP
DIODE ZENER 68V 5W DO214AA; Manufacturer: Micro Commercial Co; Manufacturer Part Number: SMBJ5373B-TP; Tolerance: ±5%; Impedance (Max) (Zzt): 44 Ohm; Current - Reverse Leakage @ Vr: 500nA @ 51.7V; Voltage - Forward (Vf) (Max) @ If: 1.2V @ 1A; Brand: Micro Commercial Components (MCC); Product Status: New Product; Supplier 1: Digi-Key; RoHS: RoHS Compliant; Category: Discrete Semiconductor Products; Stock 1: 14054; Pricing 1: 1=0.65, 10=0.57, 25=0.504, 100=0.4392, 250=0.38236, 500=0.32548, 1000=0.2607 (USD); Packaging: Cut Tape (CT); Voltage - Zener (Nom) (Vz): 68V; Power - Max: 5W; Operating Temperature: -55°C ~ 150°C; Mounting Type: Surface Mount; Package / Case: DO-214AA, SMB; Supplier Device Package: DO-214AA (SMB); ComponentLink1URL: http://www.mccsemi.com/up_pdf/SMBJ5338B-SMBJ5388B(SMB).pdf; ComponentLink1Description: http://www.mccsemi.com/up_pdf/SMBJ5338B-SMBJ5388B(SMB).pdf; Supplier Part Number 1: SMBJ5373B-TPMSCT-ND; Supplier 2: Mouser; Stock 2: 0; Pricing 2: 1=0.851, 10=0.662, 100=0.427, 1000=0.309, 3000=0.288, 9000=0.277, 24000=0.267, 45000=0.262 (AUD); Series: SMBJ5373B; Standard Pack Qty: 3000; RoHS - Mouser: Y; Minimum Order Quantity: 1; Reeling: True; ComponentLink2URL: http://www.mouser.com/ds/2/258/SMBJ5338B-SMBJ5388B(SMB)-276685.pdf; ComponentLink2Description: http://www.mouser.com/ds/2/258/SMBJ5338B-SMBJ5388B(SMB)-276685.pdf
footprint DO-214AA (SMB)
pins: 1 A, 2 K

## SMCJ200A
designator D?  Supplier Part Number 2: 84R0557  Supplier Part Number 3: 576-SMCJ200A
TVS DIODE 200VWM 324VC SMC; Manufacturer: Littelfuse Inc; Manufacturer Part Number: SMCJ200A; Type: Zener; Unidirectional Channels: 1; Voltage - Reverse Standoff (Typ): 200V; Voltage - Breakdown (Min): 224V; Voltage - Clamping (Max) @ Ipp: 324V; Current - Peak Pulse (10/1000µs): 4.6A; Power - Peak Pulse: 1500W (1.5kW); Power Line Protection: No; TVS Polarity: Unidirectional; Reverse Stand-Off Voltage Vrwm: 200; Breakdown Voltage Min: 224; Breakdown Voltage Max: 247; Clamping Voltage Vc Max: 324; Peak Pulse Current Ippm: 4.6; Breakdown Voltage: 224 V; Clamping Voltage: 324 V; Operating Voltage: 200 V; Brand: Littelfuse; Peak Surge Current: 4.6 A; Peak Pulse Power Dissipation: 1.5 kW; Supplier 1: Digi-Key; RoHS: RoHS Compliant; Category: Circuit Protection; Stock 1: 7102; Pricing 1: 1=0.7, 10=0.617, 25=0.5456, 100=0.4754, 250=0.41384, 500=0.35226, 1000=0.28215 (USD); Packaging: Cut Tape (CT); Bidirectional Channels: -; Applications: General Purpose; Capacitance @ Frequency: -; Operating Temperature: -55°C ~ 150°C (TJ); Mounting Type: Surface Mount; Package / Case: DO-214AB, SMC; Supplier Device Package: DO-214AB (SMCJ); ComponentLink1URL: http://www.littelfuse.com/products/tvs-diodes/surface-mount/~/media/electronics/datasheets/tvs_diodes/littelfuse_tvs_diode_smcj_datasheet.pdf.pdf; ComponentLink1Description: http://www.littelfuse.com/products/tvs-diodes/surface-mount/~/media/electronics/datasheets/tvs_diodes/littelfuse_tvs_diode_smcj_datasheet.pdf.pdf; Supplier Part Number 1: SMCJ200ALFCT-ND; Supplier 2: Newark; Stock 2: 1668; Pricing 2: 1=0,932, 250=0,703, 500=0,627, 1000=0,565, 5000=0,513 (USD); ComponentLink2URL: http://www.littelfuse.com/data/en/Data_Sheets/Littelfuse_TVS_Diode_SMCJ.pdf; ComponentLink2Description: http://www.littelfuse.com/data/en/Data_Sheets/Littelfuse_TVS_Diode_SMCJ.pdf; Supplier 3: Mouser; Stock 3: 3547; Pricing 3: 1=0.945, 10=0.736, 100=0.475, 1000=0.381, 3000=0.335, 9000=0.300, 24000=0.289, 48000=0.284 (AUD); Dimensions: 6.22 mm W x 8.13 mm L x 2.62 mm H; Series: SMCJ; Termination Style: SMD/SMT; Mounting Style: SMD/SMT; Maximum Operating Temperature: + 150 C; Minimum Operating Temperature: - 65 C; Polarity: Unidirectional; Product Category: TVS Diodes; Standard Pack Qty: 3000; RoHS - Mouser: Y; Minimum Order Quantity: 1; Reeling: True; ComponentLink3URL: http://www.mouser.com/ds/2/240/Littelfuse_TVS_Diode_SMCJ-62645.pdf; ComponentLink3Description: http://www.mouser.com/ds/2/240/Littelfuse_TVS_Diode_SMCJ-62645.pdf
footprint DO-214AB (SMC J-Bend)
pins: 1 A, 2 K

## SS3H9-E3/57T
designator D?  Supplier Part Number 2: 625-SS3H9-E3  Supplier Part Number 3: 34M8647
DIODE SCHOTTKY 90V 3A DO214AB; Manufacturer: Vishay Semiconductor Diodes Division; Manufacturer Part Number: SS3H9-E3/57T; Voltage - Forward (Vf) (Max) @ If: 800mV @ 3A; Speed: Fast Recovery =< 500ns, > 200mA (Io); Current - Reverse Leakage @ Vr: 20µA @ 90V; Configuration: Single; Brand: Vishay Semiconductors; Ifsm - Forward Surge Current: 100 A; Ir - Reverse Current: 20 uA; Vf - Forward Voltage: 0.8 V; Repetitive Reverse Voltage Vrrm Max: 90; Forward Current If(AV): 3; Forward Voltage VF Max: 800; Diode Case Style: SMD; Supplier 1: Digi-Key; RoHS: RoHS Compliant; Category: Discrete Semiconductor Products; Stock 1: 14838; Pricing 1: 1=0.69, 10=0.603, 25=0.5324, 100=0.464, 250=0.40388 (USD); Packaging: Cut Tape (CT); Diode Type: Schottky; Voltage - DC Reverse (Vr) (Max): 90V; Current - Average Rectified (Io): 3A; Reverse Recovery Time (trr): -; Capacitance @ Vr, F: -; Mounting Type: Surface Mount; Package / Case: DO-214AB, SMC; Supplier Device Package: DO-214AB, (SMC); Operating Temperature - Junction: -65°C ~ 175°C; ComponentLink1URL: http://www.vishay.com/docs/88752/ss3h9.pdf; ComponentLink1Description: http://www.vishay.com/docs/88752/ss3h9.pdf; Supplier Part Number 1: SS3H9-E3/57TGICT-ND; Supplier 2: Mouser; Stock 2: 7590; Pricing 2: 1=0.675, 10=0.594, 100=0.513, 250=0.452, 500=0.392, 850=0.338, 1700=0.321, 4250=0.296 (AUD); Product: Schottky Rectifiers; Series: SS3x; Technology: Si; Mounting Style: SMD/SMT; If - Forward Current: 3 A; Maximum Operating Temperature: + 175 C; Minimum Operating Temperature: - 65 C; Product Category: Schottky Rectifiers; Standard Pack Qty: 850; Vrrm - Repetitive Reverse Voltage: 90 V; RoHS - Mouser: E; Minimum Order Quantity: 1; Reeling: True; ComponentLink2URL: http://www.mouser.com/ds/2/427/ss3h9-14107.pdf; ComponentLink2Description: http://www.mouser.com/ds/2/427/ss3h9-14107.pdf; Supplier 3: Newark; Stock 3: 332; Pricing 3: 1=0,414, 10=0,392, 50=0,359, 100=0,324, 500=0,315, 1000=0,306, 3000=0,297, 9000=0,284 (USD); Diode Configuration: Single; Reverse Recovery Time trr Max: -; ComponentLink3URL: http://www.farnell.com/datasheets/64540.pdf; ComponentLink3Description: http://www.farnell.com/datasheets/64540.pdf
footprint DO-214AB (SMC J-Bend)
pins: 1 A, 2 K

## TBU-CA085-100-WH
designator T?  (value not drawn)
SURGE SUPP TBU 100MA 850VIMP SMD; Manufacturer: Bourns Inc.; Voltage - Working: 425V; Voltage - Clamping: 850V; Number of Circuits: 2; Supplier 1: Digi-Key; ManufacturerPartNumber: TBU-CA085-100-WH; RoHS: RoHS Compliant; Category: Circuit Protection; Stock 1: 9752; Pricing 1: 1=1.75, 10=1.584, 25=1.4192, 100=1.276, 250=1.133, 500=0.99, 1000=0.8195 (USD); Packaging: Cut Tape (CT); Technology: Mixed Technology; Power (Watts): -; Applications: General Purpose; Package / Case: SMD 6.50mm x 4.00mm; Supplier Device Package: SMD; ComponentLink1URL: http://www.bourns.com/data/global/pdfs/TBU-CA.pdf; ComponentLink1Description: http://www.bourns.com/data/global/pdfs/TBU-CA.pdf; Supplier Part Number 1: TBU-CA085-100-WHCT-ND
footprint TBU-CA (TBU)
pins: 1, 3

## TBU-DT085-300-WH
designator U?  Supplier Part Number 2: 652-TBU-DT085-300-WH
SURGE SUPP TBU DL 300MA 850VIMP; Manufacturer: Bourns Inc.; Manufacturer Part Number: TBU-DT085-300-WH; Voltage - Working: 425V; Voltage - Clamping: 850V; Number of Circuits: 2; Brand: Bourns; Supplier 1: Digi-Key; RoHS: RoHS Compliant; Category: Circuit Protection; Stock 1: 4704; Pricing 1: 1=1.91, 10=1.728, 25=1.548, 100=1.392, 250=1.236, 500=1.08, 1000=0.894 (USD); Packaging: Cut Tape (CT); Technology: Mixed Technology; Power (Watts): -; Applications: Ethernet; Package / Case: 4-VDFN Exposed Pad; Supplier Device Package: 4-DFN (5x5); ComponentLink1URL: http://www.bourns.com/data/global/pdfs/TBU-DT.pdf; ComponentLink1Description: http://www.bourns.com/data/global/pdfs/TBU-DT.pdf; Supplier Part Number 1: TBU-DT085-300-WHCT-ND; Supplier 2: Mouser; Stock 2: 1900; Pricing 2: 1=2.58, 10=2.34, 100=1.88, 500=1.46, 1000=1.21, 3000=1.09, 9000=1.01 (AUD); Current Rating: 300 mA; Operating Temperature Range: - 40 C to + 85 C; Series: TBU-DT; Termination Style: Solder Pad; Product Category: TBU Devices; Standard Pack Qty: 3000; RoHS - Mouser: Y; Minimum Order Quantity: 1; Reeling: True; ComponentLink2URL: http://www.mouser.com/ds/2/54/TBU-DT-71184.pdf; ComponentLink2Description: http://www.mouser.com/ds/2/54/TBU-DT-71184.pdf
footprint DFN (QFN SMT)
pins: 1 LINE, 2 LOAD, 3 LOAD, 4 LINE

## TEST POINT
designator TP?  (value not drawn)  (no BOM)
footprint TEST POINT (General probe point)
pins: 1